# Altium integrated library WE-TVS_rev15b.intlib: 19 symbols
Pins are listed as number, name and electrical type; pins without a type are passive.

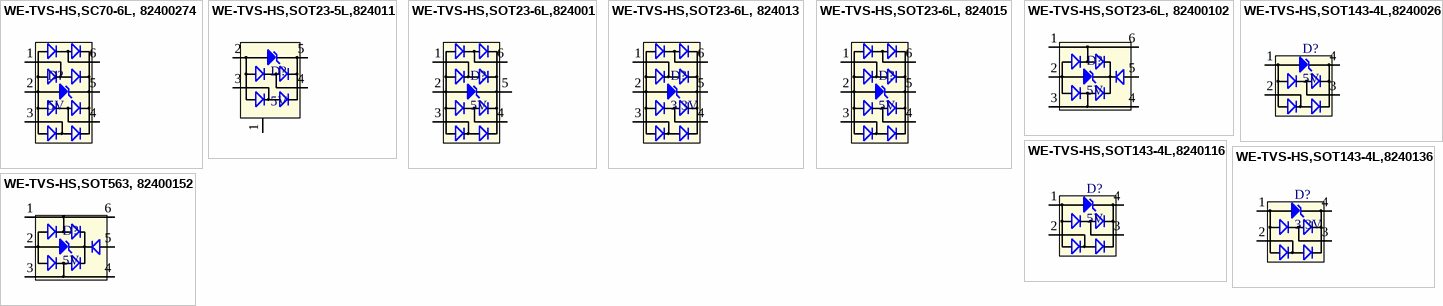
[diagram p0: symbols WE-TVS-HS,SC70-6L, 82400274 to WE-TVS-HS,SOT563, 82400152]

## WE-TVS-HS,SC70-6L, 82400274
designator D?, comment 5V
TVS Diode WE-TVS-HS, VRWM=5.0V; PartNo: 82400274; Manufacturer: W黵th Elektronik eiSos GmbH; Reverse Stand Off Voltage: 5V; ComponentLink1Description: Manufacturer; ComponentLink1URL: http://www.we-online.de; Created by: Christin Zierenner; Created Date: March 2010; ComponentLink2Description: Datasheet; ComponentLink2URL: http://katalog.we-online.de/kataloge/eisos/media/pdf/82400274.pdf
footprint SC70-6L (SC70, 6-Leads, Body 2.20x2.7mm, Pitch 0.65mm)
pins: 1 I/O1, 2 GND, 3 I/O2, 4 I/O3, 5 VDD, 6 I/O4

## WE-TVS-HS,SOT23-5L,824011
designator D?, comment 5V
TVS Diode WE-TVS-HS, VRWM=5V; PartNo: 824011; Manufacturer: W黵th Elektronik eiSos GmbH; Reverse Stand Off Voltage: 5V; ComponentLink1Description: Manufacturer; ComponentLink1URL: http://www.we-online.de; Created by: Christin Zierenner; Created Date: March 2010; ComponentLink2Description: Datasheet; ComponentLink2URL: http://katalog.we-online.de/kataloge/eisos/media/pdf/824011.pdf
footprint SOT23_5L (SOT23_5L, 5-Leads, Body 3.60x2.9mm, Pitch 0.95mm)
pins: 1 NC, 2 GND, 3 I/O1, 4 I/O2, 5 VDD

## WE-TVS-HS,SOT23-6L,824001
designator D?, comment 5V
TVS Diode WE-TVS-HS, VRWM=5V; PartNo: 824001; Manufacturer: W黵th Elektronik eiSos GmbH; Reverse Stand Off Voltage: 5V; ComponentLink1Description: Manufacturer; ComponentLink1URL: http://www.we-online.de; Created by: Christin Zierenner; Created Date: March 2010; ComponentLink2Description: Datasheet; ComponentLink2URL: http://katalog.we-online.de/kataloge/eisos/media/pdf/824001.pdf
footprint SOT23_6L (SOT23, 6-Leads, Body 3.60x2.9mm, Pitch 0.95mm)
pins: 1 I/O1, 2 GND, 3 I/O2, 4 I/O3, 5 VDD, 6 I/O4

## WE-TVS-HS,SOT23-6L, 824013
designator D?, comment 3.3V
TVS Diode WE-TVS-HS, VRWM=3.3V; PartNo: 824013; Manufacturer: W黵th Elektronik eiSos GmbH; Reverse Stand Off Voltage: 3.3V; ComponentLink1Description: Manufacturer; ComponentLink1URL: http://www.we-online.de; Created by: Christin Zierenner; Created Date: March 2010; ComponentLink2Description: Datasheet; ComponentLink2URL: http://katalog.we-online.de/kataloge/eisos/media/pdf/824013.pdf
footprint SOT23_6L (SOT23, 6-Leads, Body 3.60x2.9mm, Pitch 0.95mm)
pins: 1 I/O1, 2 GND, 3 I/O2, 4 I/O3, 5 VDD, 6 I/O4

## WE-TVS-HS,SOT23-6L, 824015
designator D?, comment 5V
TVS Diode WE-TVS-HS, VRWM=5V; PartNo: 824015; Manufacturer: W黵th Elektronik eiSos GmbH; Reverse Stand Off Voltage: 5V; ComponentLink1Description: Manufacturer; ComponentLink1URL: http://www.we-online.de; Created by: Christin Zierenner; Created Date: March 2010; ComponentLink2Description: Datasheet; ComponentLink2URL: http://katalog.we-online.de/kataloge/eisos/media/pdf/824015.pdf
footprint SOT23_6L (SOT23, 6-Leads, Body 3.60x2.9mm, Pitch 0.95mm)
pins: 1 I/O1, 2 GND, 3 I/O2, 4 I/O3, 5 VDD, 6 I/O4

## WE-TVS-HS,SOT23-6L, 82400102
designator D?, comment 5V
TVS Diode WE-TVS-HS, VRWM=5.0V; PartNo: 82400102; Manufacturer: W黵th Elektronik eiSos GmbH; Reverse Stand Off Voltage: 5V; ComponentLink1Description: Manufacturer; ComponentLink1URL: http://www.we-online.de; Created by: Christin Zierenner; Created Date: March 2010; ComponentLink2Description: Datasheet; ComponentLink2URL: http://katalog.we-online.de/kataloge/eisos/media/pdf/82400102.pdf
footprint SOT23_6L (SOT23, 6-Leads, Body 3.60x2.9mm, Pitch 0.95mm)
pins: 1 I/O1, 2 GND, 3 I/O2, 4 I/O2, 5 VDD, 6 I/O1

## WE-TVS-HS,SOT143-4L,8240026
designator D?, comment 5V
TVS Diode WE-TVS-HS, VRWM=5V; PartNo: 8240026; Manufacturer: W黵th Elektronik eiSos GmbH; Reverse Stand Off Voltage: 5V; ComponentLink1Description: Manufacturer; ComponentLink1URL: http://www.we-online.de; Created by: Christin Zierenner; Created Date: March 2010; ComponentLink2Description: Datasheet; ComponentLink2URL: http://katalog.we-online.de/kataloge/eisos/media/pdf/8240026.pdf
footprint SOT143-4L (SOT143-4L, 4-Leads, Body 2.95x2.4mm, Pitch 1.70/1.90mm)
pins: 1 GND, 2 I/O1, 3 I/O2, 4 VDD

## WE-TVS-HS,SOT143-4L,8240116
designator D?, comment 5V
TVS Diode WE-TVS-HS, VRWM=5V; PartNo: 8240116; Manufacturer: W黵th Elektronik eiSos GmbH; Reverse Stand Off Voltage: 5V; ComponentLink1Description: Manufacturer; ComponentLink1URL: http://www.we-online.de; Created by: Christin Zierenner; Created Date: March 2010; ComponentLink2Description: Datasheet; ComponentLink2URL: http://katalog.we-online.de/kataloge/eisos/media/pdf/8240116.pdf
footprint SOT143-4L (SOT143-4L, 4-Leads, Body 2.95x2.4mm, Pitch 1.70/1.90mm)
pins: 1 GND, 2 I/O1, 3 I/O2, 4 VDD

## WE-TVS-HS,SOT143-4L,8240136
designator D?, comment 3.3V
TVS Diode WE-TVS-HS, VRWM=3.3V; PartNo: 8240136; Manufacturer: W黵th Elektronik eiSos GmbH; Reverse Stand Off Voltage: 3.3V; ComponentLink1Description: Manufacturer; ComponentLink1URL: http://www.we-online.de; Created by: Christin Zierenner; Created Date: March 2010; ComponentLink2Description: Datasheet; ComponentLink2URL: http://katalog.we-online.de/kataloge/eisos/media/pdf/8240136.pdf
footprint SOT143-4L (SOT143-4L, 4-Leads, Body 2.95x2.4mm, Pitch 1.70/1.90mm)
pins: 1 GND, 2 I/O1, 3 I/O2, 4 VDD

## WE-TVS-HS,SOT563, 82400152
designator D?, comment 5V
TVS Diode WE-TVS-HS, VRWM=5.0V; PartNo: 82400152; Manufacturer: W黵th Elektronik eiSos GmbH; Reverse Stand Off Voltage: 5V; ComponentLink1Description: Manufacturer; ComponentLink1URL: http://www.we-online.de; Created by: Christin Zierenner; Created Date: March 2010; ComponentLink2Description: Datasheet; ComponentLink2URL: http://katalog.we-online.de/pbs/datasheet/82400152.pdf
footprint SOT563 (SOT563, 6-Leads, Body 1.6x1.6mm, Pitch 0.5mm)
pins: 1 I/O1, 2 GND, 3 I/O2, 4 I/O2, 5 VDD, 6 I/O1


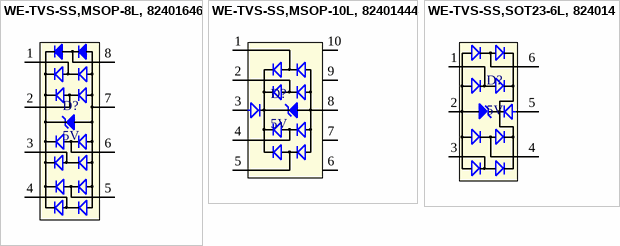
[diagram p1: symbols WE-TVS-SS,MSOP-8L, 82401646 to WE-TVS-SS,SOT23-6L, 824014]

## WE-TVS-SS,MSOP-8L, 82401646
designator D?, comment 5V
TVS Diode WE-TVS-SS, VRWM=5V; PartNo: 82401646; Manufacturer: Würth Elektronik eiSos GmbH; Reverse Stand Off Voltage: 5V; ComponentLink1Description: Manufacturer; ComponentLink1URL: http://www.we-online.de; Created by: Christin Zierenner; Created Date: March 2010; ComponentLink2Description: Datasheet; ComponentLink2URL: http://katalog.we-online.de/kataloge/eisos/media/pdf/82401646.pdf
footprint MSOP-8L (MSOP-8L, 8-Leads, Body 5x3mm, Pitch 0.5mm)
pins: 1 I/O1, 2 I/O2, 3 I/O3, 4 I/O4, 5 I/O5, 6 I/O6, 7 GND, 8 VDD

## WE-TVS-SS,MSOP-10L, 82401444
designator D?, comment 5V
TVS Diode WE-TVS-SS, VRWM=5V; PartNo: 82401444; Manufacturer: Würth Elektronik eiSos GmbH; Reverse Stand Off Voltage: 5V; ComponentLink1Description: Manufacturer; ComponentLink1URL: http://www.we-online.de; Created by: Christin Zierenner; Created Date: March 2010; ComponentLink2Description: Datasheet; ComponentLink2URL: http://katalog.we-online.de/kataloge/eisos/media/pdf/82401444.pdf
footprint MSOP-10L (MSOP-10L, 10-Leads, Body 5x3mm, Pitch 0.5mm)
pins: 1 I/O1, 2 I/O2, 3 VDD, 4 I/O3, 5 I/O4, 6 NC, 7 NC, 8 GND, 9 NC, 10 NC

## WE-TVS-SS,SOT23-6L, 824014
designator D?, comment 5V
TVS Diode WE-TVS-SS, VRWM=5V; PartNo: 824014; Manufacturer: Würth Elektronik eiSos GmbH; Reverse Stand Off Voltage: 5V; ComponentLink1Description: Manufacturer; ComponentLink1URL: http://www.we-online.de; Created by: Christin Zierenner; Created Date: March 2010; ComponentLink2Description: Datasheet; ComponentLink2URL: http://katalog.we-online.de/kataloge/eisos/media/pdf/824014.pdf
footprint SOT23_6L (SOT23, 6-Leads, Body 3.60x2.9mm, Pitch 0.95mm)
pins: 1 I/O1, 2 GND, 3 I/O2, 4 I/O3, 5 VDD, 6 I/O6


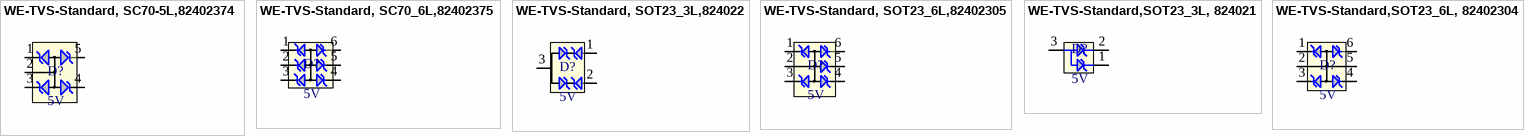
[diagram p2: symbols WE-TVS-Standard, SC70-5L,82402374 to WE-TVS-Standard,SOT23_6L, 82402304]

## WE-TVS-Standard, SC70-5L,82402374
designator D?, comment 5V
TVS Diode WE-TVS-Standard, VRWM=5.0V; PartNo: 82402374; Manufacturer: Würth Elektronik eiSos GmbH; Reverse Stand Off Voltage: 5V; ComponentLink1Description: Manufacturer; ComponentLink1URL: http://www.we-online.de; Created by: Christin Zierenner; Created Date: March 2010; ComponentLink2Description: Datasheet; ComponentLink2URL: http://katalog.we-online.de/kataloge/eisos/media/pdf/82402374.pdf
footprint SC70-5L (SC70, 5-Leads, Body 2.20x2.7mm, Pitch 0.65mm)
pins: 1 C1, 2 A1, 3 C2, 4 C3, 5 C4

## WE-TVS-Standard, SC70_6L,82402375
designator D?, comment 5V
TVS Diode WE-TVS-Standard, VRWM=5.0V; PartNo: 82402375; Manufacturer: Würth Elektronik eiSos GmbH; Reverse Stand Off Voltage: 5V; ComponentLink1Description: Manufacturer; ComponentLink1URL: http://www.we-online.de; Created by: Christin Zierenner; Created Date: March 2010; ComponentLink2Description: Datasheet; ComponentLink2URL: http://katalog.we-online.de/kataloge/eisos/media/pdf/82402375.pdf
footprint SC70-6L (SC70, 6-Leads, Body 2.20x2.7mm, Pitch 0.65mm)
pins: 1 C1, 2 A1, 3 C2, 4 C3, 5 A2, 6 C4

## WE-TVS-Standard, SOT23_3L,824022
designator D?, comment 5V
TVS Diode WE-TVS-Standard, VRWM=5.0V; PartNo: 824022; Manufacturer: Würth Elektronik eiSos GmbH; Reverse Stand Off Voltage: 5V; ComponentLink1Description: Manufacturer; ComponentLink1URL: http://www.we-online.de; Created by: Christin Zierenner; Created Date: March 2010; ComponentLink2Description: Datasheet; ComponentLink2URL: http://katalog.we-online.de/kataloge/eisos/media/pdf/824022.pdf
footprint SOT23_3L (OT23, 3-Leads, Body 2.9x2.4mm, Pitch 0.95mm)
pins: 1 I/O, 2 I/O, 3 GND

## WE-TVS-Standard, SOT23_6L,82402305
designator D?, comment 5V
TVS Diode WE-TVS-Standard, VRWM=5.0V; PartNo: 82402305; Manufacturer: Würth Elektronik eiSos GmbH; Reverse Stand Off Voltage: 5V; ComponentLink1Description: Manufacturer; ComponentLink1URL: http://www.we-online.de; Created by: Christin Zierenner; Created Date: March 2010; ComponentLink2Description: Datasheet; ComponentLink2URL: http://katalog.we-online.de/kataloge/eisos/media/pdf/82402305.pdf
footprint SOT23_6L (OT23, 6-Leads, Body 3.60x2.9mm, Pitch 0.95mm)
pins: 1 C1, 2 A1, 3 C2, 4 C3, 5 A2, 6 C4

## WE-TVS-Standard,SOT23_3L, 824021
designator D?, comment 5V
TVS Diode WE-TVS-Standard, VRWM=5.0V; PartNo: 824021; Manufacturer: Würth Elektronik eiSos GmbH; Reverse Stand Off Voltage: 5V; ComponentLink1Description: Manufacturer; ComponentLink1URL: http://www.we-online.de; Created by: Christin Zierenner; Created Date: March 2010; ComponentLink2Description: Datasheet; ComponentLink2URL: http://katalog.we-online.de/kataloge/eisos/media/pdf/824021.pdf
footprint SOT23_3L (OT23, 3-Leads, Body 2.9x2.4mm, Pitch 0.95mm)
pins: 1 I/O, 2 I/O, 3 GND

## WE-TVS-Standard,SOT23_6L, 82402304
designator D?, comment 5V
TVS Diode WE-TVS-Standard, VRWM=5.0V; PartNo: 82402304; Manufacturer: Würth Elektronik eiSos GmbH; Reverse Stand Off Voltage: 5V; ComponentLink1Description: Manufacturer; ComponentLink1URL: http://www.we-online.de; Created by: Christin Zierenner; Created Date: March 2010; ComponentLink2Description: Datasheet; ComponentLink2URL: http://katalog.we-online.de/kataloge/eisos/media/pdf/82402304.pdf
footprint SOT23_6L (OT23, 6-Leads, Body 3.60x2.9mm, Pitch 0.95mm)
pins: 1 C1, 2 A1, 3 C2, 4 C3, 5 A2, 6 C4